# Altium schematic symbol library FenoliteSample.SchLib: 6 symbols
Pins are listed as number, name and electrical type; pins without a type are passive.

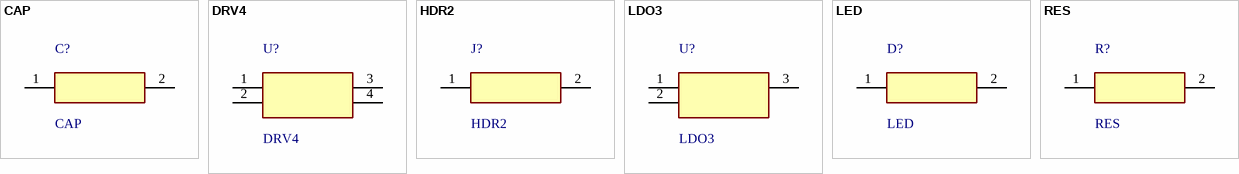
[diagram p0: symbols CAP to RES]

## CAP
designator C?
footprint C0603
pins: 1, 2

## DRV4
designator U?
footprint SOT143
pins: 1, 2, 3, 4

## HDR2
designator J?
footprint HDR1X2
pins: 1, 2

## LDO3
designator U?
footprint SOT23
pins: 1, 2, 3

## LED
designator D?
footprint LED0603
pins: 1, 2

## RES
designator R?
footprint R0603
pins: 1, 2